# Altium footprint library OTTO.PcbLib: 50 footprints (part 4 of 4)
Each footprint in its own frame and in the unit in brackets; x right, y up, seen from the top. Pads: shape width x height; smd on the part's side, far side on the other; paste and mask are expansions set on the pad; w line width, h text height; cw(c..) or ccw(c..) is an arc to the next point about the centre after c.
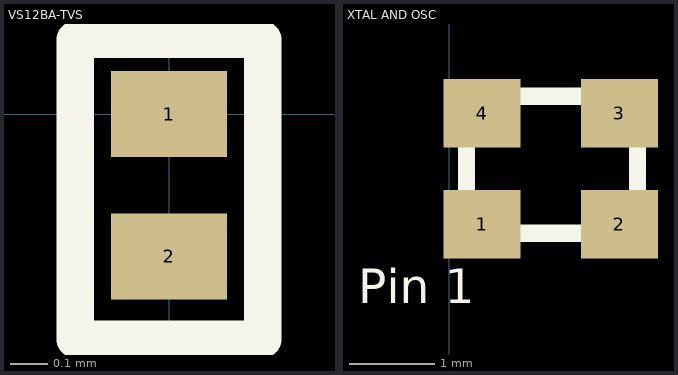
[diagram p3: the footprints below, top view; thin cyan lines are the x and y axes]

## VS12BA-TVS [mm]
height 1.9
pads (2):
  rect 0.31x0.23 smd: 1(0,0) 2(0,-0.38)
Top Overlay:
  lines w0.1: -0.25,-0.6 -0.25,0.2 0.25,0.2 0.25,-0.6 -0.25,-0.6

## XTAL AND OSC [mm]
height 1.9
pads (4):
  rect 0.9x0.8 smd: 1(0.383,1.606) 2(1.988,1.606) 3(1.988,2.903) 4(0.383,2.903)
Top Overlay:
  lines w0.2: 0.2,1.5 0.2,3.1 2.2,3.1 2.2,1.5 0.2,1.5
  text "Pin 1" at -1.067,0.681 h0.4